# Altium footprint library 集成块.PcbLib: 98 footprints (part 6 of 7)
Each footprint in its own frame and in the unit in brackets; x right, y up, seen from the top. Pads: shape width x height; smd on the part's side, far side on the other; paste and mask are expansions set on the pad; w line width, h text height; cw(c..) or ccw(c..) is an arc to the next point about the centre after c.
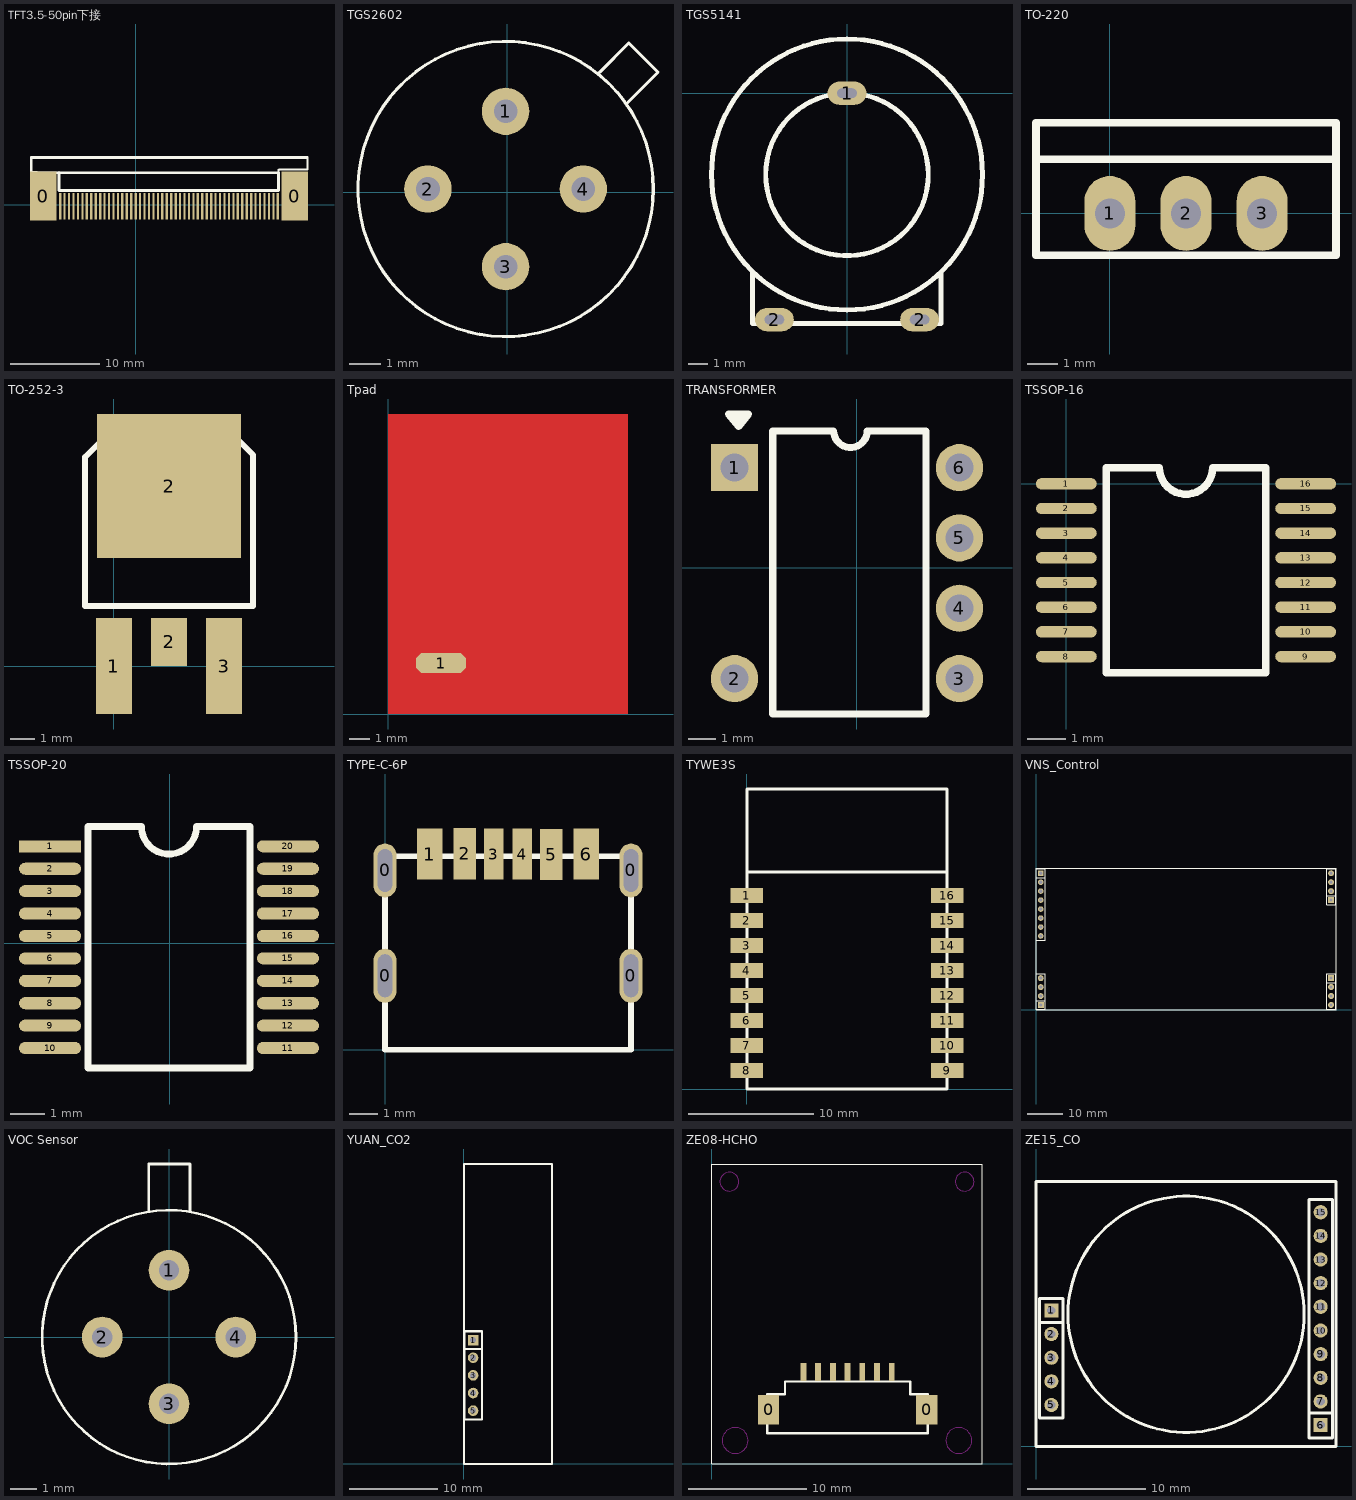
[diagram p5: the footprints below, top view; thin cyan lines are the x and y axes]

## TFT3.5-50pin下接 [mm]
pads (52):
  rect 3x5.5 smd: 0(-10.388,0.956) 0(17.889,0.956)
  rect 0.25x3 smd: 1(-8.501,-0.203) 2(-8.001,-0.203) 3(-7.501,-0.203) 4(-7.001,-0.203) 5(-6.501,-0.203) 6(-6.001,-0.203) 7(-5.501,-0.203) 8(-5.001,-0.203) 9(-4.501,-0.203) 10(-4.001,-0.203) 11(-3.501,-0.203) 12(-3.001,-0.203) 13(-2.501,-0.203) 14(-2.001,-0.203) 15(-1.501,-0.203) 16(-1.001,-0.203) 17(-0.501,-0.203) 18(-0.001,-0.203) 19(0.499,-0.203) 20(0.999,-0.203) 21(1.499,-0.203) 22(1.999,-0.203) 23(2.499,-0.203) 24(2.999,-0.203) 25(3.499,-0.203) 26(3.999,-0.203) 27(4.499,-0.203) 28(4.999,-0.203) 29(5.499,-0.203) 30(5.999,-0.203) 31(6.499,-0.203) 32(6.999,-0.203) 33(7.499,-0.203) 34(7.999,-0.203) 35(8.499,-0.203) 36(8.999,-0.203) 37(9.499,-0.203) 38(9.999,-0.203) 39(10.499,-0.203) 40(10.999,-0.203) 41(11.502,-0.203) 42(12.002,-0.203) 43(12.502,-0.203) 44(13.002,-0.203) 45(13.502,-0.203) 46(14.002,-0.203) 47(14.502,-0.203) 48(15.002,-0.203) 49(15.502,-0.203) 50(16.002,-0.203)
Top Overlay:
  lines w0.25: 16.078,3.597 16.078,3.886 16.154,3.962 19.329,3.962 19.329,5.297
  lines w0.305: -11.751,3.601 -11.751,5.301 ; -11.751,5.297 19.329,5.297 ; -11.726,3.601 -11.126,3.601 ; -11.151,3.597 16.078,3.597 16.078,1.591 -8.61,1.591 ; -8.626,1.601 -8.626,3.607

## TGS2602 [mil]
pads (4):
  round 60 hole 30: 1(-2,102.43) 2(-100.43,4) 3(-2,-94.43) 4(96.43,4)
Top Overlay:
  circle w3.94: c-2,4 r187.01
  lines w3.94: 117,148 117,149 ; 117,152 154,189 191,152 152,113

## TGS5141 [mm]
pads (3):
  oval 2x1.2 hole 0.5 slot 1 at 0 deg: 1(0,0) 2(-3.75,-11.7) 2(3.75,-11.7)
Top Overlay:
  circle w0.254: c0,-4.2 r7
  circle w0.254: c0,-4.2 r4.2
  lines w0.25: -4.875,-9.25 -4.875,-11.9 4.85,-11.9 4.85,-9.275

## TO-220 [mm]
pads (3):
  oval 1.7x2.5 hole 1: 1(0,0) 2(2.54,0) 3(5.08,0)
Top Overlay:
  lines w0.254: -2.464,1.803 7.544,1.803 ; -2.464,-1.397 7.544,-1.397 7.544,3.023 -2.464,3.023 -2.464,-1.397

## TO-252-3 [mm]
pads (4):
  rect 1.5x4 smd: 1(0,0) 3(4.6,0)
  rect 1.5x2 smd: 2(2.3,1)
  rect 6x6 smd: 2(2.3,7.5)
Top Overlay:
  lines w0.254: 4.6,9.5 5.1,9.5 5.8,8.8 5.8,8 5.8,2.5 -1.2,2.5 -1.2,8 -1.2,8.7 -0.4,9.5 -0.1,9.5 4.7,9.5

## Tpad [mm]
pads (1):
  oct 2.5x1 smd: 1(2.65,2.55)
Top Layer:
  rectangle: 0,0 12,15

## TRANSFORMER [mm]
pads (6):
  rect 1.7x1.7 hole 1: 1(-4.394,3.607)
  round 1.7 hole 1: 2(-4.394,-3.993) 3(3.706,-3.993) 4(3.706,-1.46) 5(3.706,1.073) 6(3.706,3.607)
Top Overlay:
  lines w0.254: -4.569,5.532 -3.894,5.532 -4.244,5.082 -4.619,5.532 -4.294,5.257 -4.119,5.457 ; -3.019,-5.268 2.506,-5.268 2.506,4.932 0.385,4.932 cw(c-0.219,4.932) -0.824,4.932 -3.019,4.932 -3.019,-5.268

## TSSOP-16 [mm]
pads (16):
  oval 1.6x0.3 smd: 1(0,0) 2(0,-0.65) 3(0,-1.3) 4(0,-1.95) 5(0,-2.6) 6(0,-3.25) 7(0,-3.9) 8(0,-4.55) 9(6.3,-4.55) 10(6.3,-3.9) 11(6.3,-3.25) 12(6.3,-2.6) 13(6.3,-1.95) 14(6.3,-1.3) 15(6.3,-0.65) 16(6.3,0)
Top Overlay:
  lines w0.2: 1.05,-4.975 1.05,0.425 2.45,0.425 ccw(c3.15,0.425) 3.85,0.425 5.25,0.425 5.25,-4.975 1.05,-4.975

## TSSOP-20 [mm]
pads (20):
  rect 1.8x0.35 smd: 1(-3.471,2.809)
  oval 1.8x0.35 smd: 2(-3.471,2.159) 3(-3.471,1.509) 4(-3.471,0.859) 5(-3.471,0.209) 6(-3.471,-0.441) 7(-3.471,-1.091) 8(-3.471,-1.741) 9(-3.471,-2.391) 10(-3.471,-3.041) 11(3.429,-3.041) 12(3.429,-2.391) 13(3.429,-1.741) 14(3.429,-1.091) 15(3.429,-0.441) 16(3.429,0.209) 17(3.429,0.859) 18(3.429,1.509) 19(3.429,2.159) 20(3.429,2.809)
Top Overlay:
  lines w0.2: -2.371,3.384 -2.371,-3.616 2.329,-3.616 2.329,3.384 ; -0.821,3.384 ccw(c-0.021,3.384) 0.779,3.384
  lines w0.203: -2.371,3.384 -0.821,3.384 ; 0.779,3.384 2.329,3.384

## TYPE-C-6P [mm]
pads (10):
  oval 0.8x1.9 hole 0.5 slot 1.5 at 90 deg: 0(0,2.6) 0(0,6.3) 0(8.64,2.6) 0(8.64,6.3)
  rect 0.9x1.8 smd: 1(1.57,6.876) 6(7.07,6.876)
  rect 0.8x1.8 smd: 2(2.8,6.883) 5(5.84,6.858)
  rect 0.7x1.8 smd: 3(3.82,6.876) 4(4.82,6.876)
Top Overlay:
  lines w0.2: 8.636,6.782 8.64,6.778 8.64,0 0,0 0,6.8 8.636,6.8

## TYWE3S [mm]
height 3.3
pads (16):
  rect 2.6x1.2 smd: 1(0,15.48) 2(0,13.48) 3(0,11.48) 4(0,9.48) 5(0,7.48) 6(0,5.48) 7(0,3.48) 8(0,1.48) 9(16,1.48) 10(16,3.48) 11(16,5.48) 12(16,7.48) 13(16,9.48) 14(16,11.48) 15(16,13.48) 16(16,15.48)
Top Overlay:
  lines w0.254: 0,17.37 16,17.37 ; 0,0 0,24 16,24 16,0 0,0

## VNS_Control [mm]
pads (20):
  rect 1.7x1.7 hole 0.9: 0(1.346,1.295) 0(83.617,31.013) 12(83.617,8.941)
  round 1.7 hole 0.9: 0(1.346,3.835) 0(1.346,6.375) 0(1.346,8.915) 0(83.617,33.553) 0(83.617,36.093) 0(83.617,38.633) 9(83.617,1.321) 10(83.617,3.861) 11(83.617,6.401)
  rect 1.57x1.57 hole 0.9: 1(1.346,38.633)
  round 1.57 hole 0.9: 2(1.346,36.093) 3(1.346,33.553) 4(1.346,31.013) 5(1.346,28.473) 6(1.346,25.933) 7(1.346,23.393) 8(1.346,20.853)
Top Overlay:
  lines w0.1: 84.988,40 0,40 0,0 85,0 85,40
  lines w0.254: 0.076,2.565 2.616,2.565 ; 0.076,37.363 2.616,37.363 ; 82.347,7.671 84.887,7.671 ; 82.347,32.283 84.887,32.283 ; 0.076,0.025 0.076,10.185 2.616,10.185 2.616,0.025 0.076,0.025 ; 0.076,19.583 0.076,39.903 2.616,39.903 2.616,19.583 0.076,19.583 ; 82.347,0.051 82.347,10.211 84.887,10.211 84.887,0.051 82.347,0.051 ; 82.347,29.743 82.347,39.903 84.887,39.903 84.887,29.743 82.347,29.743

## VOC Sensor [mil]
pads (4):
  round 60 hole 30: 1(0,98.43) 2(-98.43,0) 3(0,-98.43) 4(98.43,0)
Top Overlay:
  circle w3.94: c0,0 r187.01
  lines w3.94: -30,185 -30,255 31,255 31,185

## YUAN_CO2 [mm]
pads (5):
  rect 1.2x1.2 hole 0.7: 1(1.041,14.045)
  round 1.2 hole 0.7: 2(1.041,12.045) 3(1.041,10.045) 4(1.041,8.045) 5(1.041,6.045)
Top Overlay:
  lines w0.2: 9.989,34 0,34 0,0 10,0 10,34
  lines w0.25: 0.041,15.045 2.041,15.045
  lines w0.254: 0.041,13.045 2.041,13.045 2.041,15.045 2.041,5.045 0.041,5.045 0.041,15.045

## ZE08-HCHO [mm]
pads (9):
  rect 1.8x2.5 smd: 0(4.834,4.615) 0(18.274,4.615)
  rect 0.5x1.5 smd: 1(7.799,7.815) 2(9.049,7.815) 3(10.299,7.815) 4(11.549,7.815) 5(12.799,7.815) 6(14.049,7.815) 7(15.299,7.815)
Top Overlay:
  lines w0.1: 0,0 0,25.5 23,25.5 23,0 0,0
  lines w0.2: 4.734,2.615 18.374,2.615 18.374,5.915 16.874,5.915 16.874,7.015 6.234,7.015 6.234,5.915 4.734,5.915 4.734,2.615
Keep-Out Layer:
  circle w0.1: c2,2 r1.1
  circle w0.1: c1.5,24 r0.8
  circle w0.1: c21,2 r1.1
  circle w0.1: c21.5,24 r0.8

## ZE15_CO [mm]
pads (15):
  rect 1.2x1.2 hole 0.7: 1(1.3,11.5) 6(24.1,1.8)
  round 1.2 hole 0.7: 2(1.3,9.5) 3(1.3,7.5) 4(1.3,5.5) 5(1.3,3.5) 7(24.1,3.8) 8(24.1,5.8) 9(24.1,7.8) 10(24.1,9.8) 11(24.1,11.813) 12(24.1,13.813) 13(24.1,15.813) 14(24.1,17.813) 15(24.1,19.813)
Top Overlay:
  circle w0.254: c12.708,11.176 r10
  lines w0.25: 0.3,12.5 2.3,12.5
  lines w0.254: 0.3,10.5 2.3,10.5 2.3,12.5 2.3,2.407 0.3,2.407 0.3,12.5 ; 23.095,20.881 25.095,20.881 ; 23.1,20.881 23.1,0.707 25.1,0.707 25.1,20.881 ; 23.105,2.821 25.086,2.821 ; 0,0 25.4,0 25.4,22.4 0,22.4 0,0